# EAGLE library part FTSH-107-01-L-D-K (library msut_zadaca3)
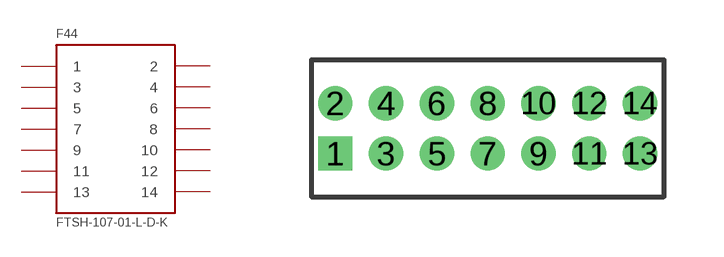
[diagram p3: symbol with the pads of TUBE_FTSH-107-01-L-D-K; footprint TUBE_FTSH-107-01-L-D-K]

Designator prefix F44

## FTSH-107-01-L-D-K  [TUBE_FTSH-107-01-L-D-K]
1  1
2  2
3  3
4  4
5  5
6  6
7  7
8  8
9  9
10  10
11  11
12  12
13  13
14  14

## Footprint TUBE_FTSH-107-01-L-D-K (pad centres in mm)
drill 0.35 square: 1 0,-0.63
drill 0.35: 2 0,0.63; 3 1.27,-0.63; 4 1.27,0.63; 5 2.54,-0.63; 6 2.54,0.63; 7 3.81,-0.63; 8 3.81,0.63; 9 5.08,-0.63; 10 5.08,0.63; 11 6.35,-0.63; 12 6.35,0.63; 13 7.62,-0.63; 14 7.62,0.63